# EAGLE library part RFD21733 (library rfd21733)
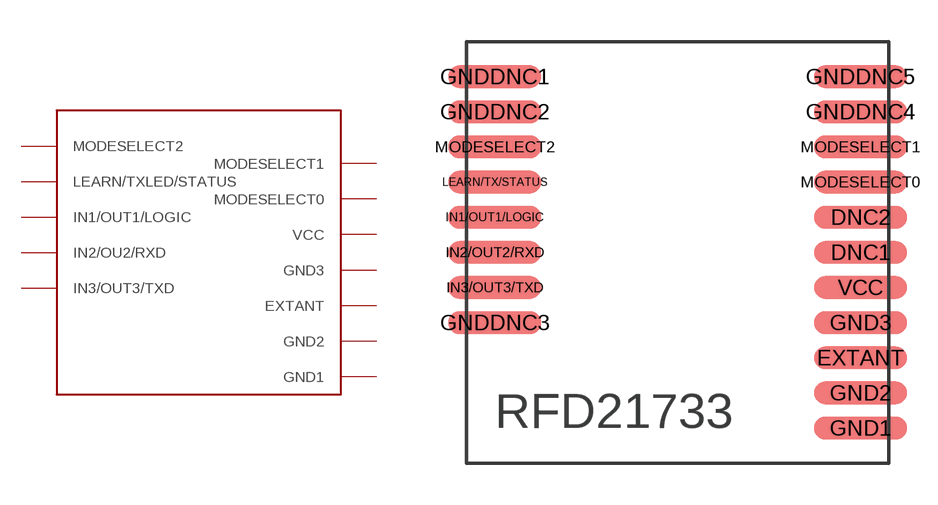
[diagram p0: symbol with the pads of RFD21733; footprint RFD21733]

Designator prefix -

## RFD21733  [RFD21733]
EXTANT  EXTANT
GND1  GND1
GND2  GND2
GND3  GND3
IN1/OUT1/LOGIC  IN1/OUT1/LOGIC
IN2/OUT2/RXD  IN2/OU2/RXD
IN3/OUT3/TXD  IN3/OUT3/TXD
LEARN/TX/STATUS  LEARN/TXLED/STATUS
MODESELECT0  MODESELECT0
MODESELECT1  MODESELECT1
MODESELECT2  MODESELECT2
VCC  VCC

## Footprint RFD21733 (pad centres in mm)
RFD21733
smd 3.353 x 0.813: DNC1 14.224,7.62; DNC2 14.224,8.89; EXTANT 14.224,3.81; GND1 14.224,1.27; GND2 14.224,2.54; GND3 14.224,5.08; GNDDNC1 1.016,13.97; GNDDNC2 1.016,12.7; GNDDNC3 1.016,5.08; GNDDNC4 14.224,12.7; GNDDNC5 14.224,13.97; IN1/OUT1/LOGIC 1.016,8.89; IN2/OUT2/RXD 1.016,7.62; IN3/OUT3/TXD 1.016,6.35; LEARN/TX/STATUS 1.016,10.16; MODESELECT0 14.224,10.16; MODESELECT1 14.224,11.43; MODESELECT2 1.016,11.43; VCC 14.224,6.35